# Altium footprint library CAPPOL_SMD_SIZE_C.PcbLib: 1 footprints
Each footprint in its own frame and in the unit in brackets; x right, y up, seen from the top. Pads: shape width x height; smd on the part's side, far side on the other; paste and mask are expansions set on the pad; w line width, h text height; cw(c..) or ccw(c..) is an arc to the next point about the centre after c.
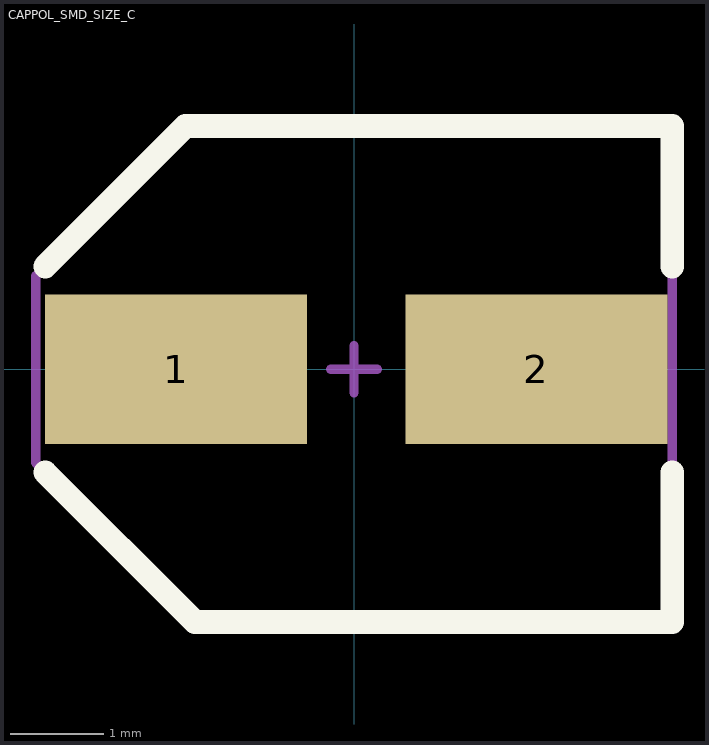
[diagram p0: the footprint, top view; thin cyan lines are the x and y axes]

## CAPPOL_SMD_SIZE_C [mm]
height 0.95
pads (2):
  rect 2.8x1.6 smd: 1(-1.9,0) 2(1.95,0)
Top Overlay:
  lines w0.254: -3.3,-1.1 -1.7,-2.7 ; 3.4,-1.1 3.4,-2.7 -1.7,-2.7 ; 3.4,1.1 3.4,2.6 -1.8,2.6 -3.3,1.1 ; -3.3,1.1 -3.3,1.1 ; -1.7,-2.7 -1.7,-2.7
Top Assembly:
  lines w0.1: -0.25,0 0.25,0 ; 0,-0.25 0,0.25 ; -3.4,-1 -1.7,-2.7 3.4,-2.7 3.4,2.6 -1.8,2.6 -3.4,1 -3.4,-1
  text "'.Designator'" at 0,0 h0.7
3D body "User Library-capacitor size C.STEP": height 5.41, standoff -0.01, extent -2.95,-2.65 2.95,2.65